# EAGLE library part 691321300017 (library Wurth_Terminal_Blocks_Connectors_rev15d)
WR-TBL Serie 321 - 3.81mm Vertical PCB Header , 17 pins=>Code : Con_TBL_Pluggable_3.81_PCB_THT_Simple_691321300017 <http://katalog.we-online.de/media/images/eican/Con_TBL_Pluggable_3.81_PCB_THT_Simple_6913213000xx_pf2.jpg> Details see: http://katalog.we-online.de/en/em/691_321_300_0xx Created 2014-06-19, Karrer Zheng 2014 (C) Würth Elektronik
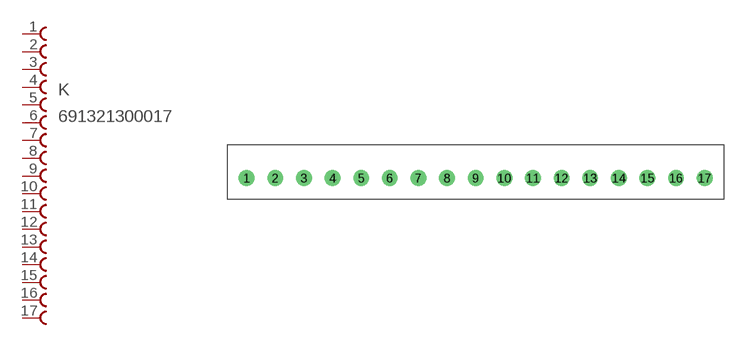
[diagram p28: symbol with the pads of 691321300017; footprint 691321300017]

Designator prefix K

## 691321300017  [691321300017]
1  1  pas
2  2  pas
3  3  pas
4  4  pas
5  5  pas
6  6  pas
7  7  pas
8  8  pas
9  9  pas
10  10  pas
11  11  pas
12  12  pas
13  13  pas
14  14  pas
15  15  pas
16  16  pas
17  17  pas

## Footprint 691321300017 (pad centres in mm)
WR-TBL Serie 321 - 3.81mm Vertical PCB Header , 17 Pins
drill 1.4: 1 -45.72,0; 2 -41.91,0; 3 -38.1,0; 4 -34.29,0; 5 -30.48,0; 6 -26.67,0; 7 -22.86,0; 8 -19.05,0; 9 -15.24,0; 10 -11.43,0; 11 -7.62,0; 12 -3.81,0; 13 0,0; 14 3.81,0; 15 7.62,0; 16 11.43,0; 17 15.24,0